# Altium schematic symbol library AO4407A.SchLib: 1 symbol
Pins are listed as number, name and electrical type; pins without a type are passive.

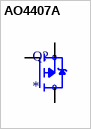
[diagram p0: symbol AO4407A]

## AO4407A
designator Q?
Mosfet p-Ch -30v -12a 8-Soic - Ao4407a; MF: {'manufacturer': u'Alpha '}; Availability: Unavailable; MP: AO4407A; Value: *; Price: None; Package: None
footprint SOIC127P600X175-8N
pins: 1 S, 2 S, 3 S, 4 G, 5 D, 6 D, 7 D, 8 D